# EAGLE library part MOTORSCHUTZSCHALTER_3-POL_THERM_MAG_HANDBETAETIGT_HILFSKONTAKTE (library e-motorschutzschalter)
Motorschutzschalter 3-pol. mit thermischer Auslösung, Handbetätigt, Hilfskontakte
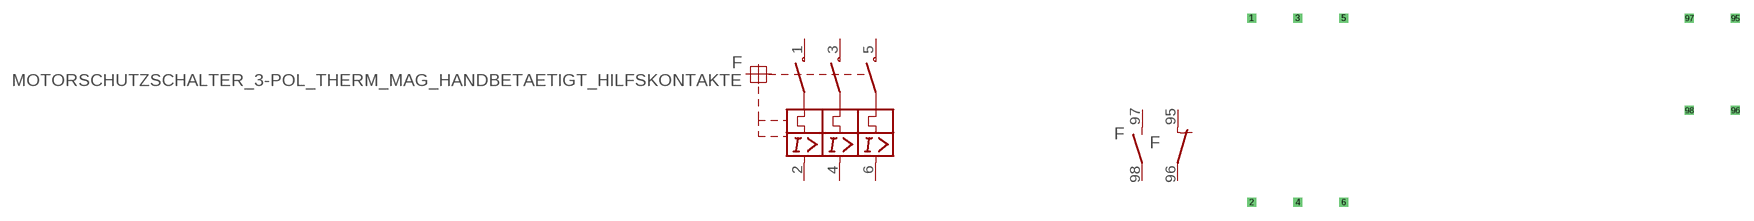
[diagram p9: symbol with the pads of MOTORSCHUTZSCHALTER_3-POL_THERM_MAG_HANDBETAETIGT_HILFSKONTAKTE; footprint MOTORSCHUTZSCHALTER_3-POL_THERM_MAG_HANDBETAETIGT_HILFSKONTAKTE]

Designator prefix F; gates G$1=MOTORSCHUTZSCHALTER_3-POL_THERM_MAG_HANDBETAETIGT G$2=SCHLIESSER-1 G$3=OEFFNER-1

## MOTORSCHUTZSCHALTER_3-POL_THERM_MAG_HANDBETAETIGT_HILFSKONTAKTE  [MOTORSCHUTZSCHALTER_3-POL_THERM_MAG_HANDBETAETIGT_HILFSKONTAKTE]
1  G$1:1  pas
2  G$1:2  pas
3  G$1:3  pas
4  G$1:4  pas
5  G$1:5  pas
6  G$1:6  pas
95  G$3:95  pas
96  G$3:96  pas
97  G$2:97  pas
98  G$2:98  pas

## Footprint MOTORSCHUTZSCHALTER_3-POL_THERM_MAG_HANDBETAETIGT_HILFSKONTAKTE (pad centres in mm)
Dummy
drill 0.5 pad 1 square: 1 -15.24,2.54; 2 -15.24,-17.78; 3 -10.16,2.54; 4 -10.16,-17.78; 5 -5.08,2.54; 6 -5.08,-17.78; 95 38.1,2.54; 96 38.1,-7.62; 97 33.02,2.54; 98 33.02,-7.62